# Altium integrated library Microchip Bluetooth.IntLib: 2 symbols
Pins are listed as number, name and electrical type; pins without a type are passive.

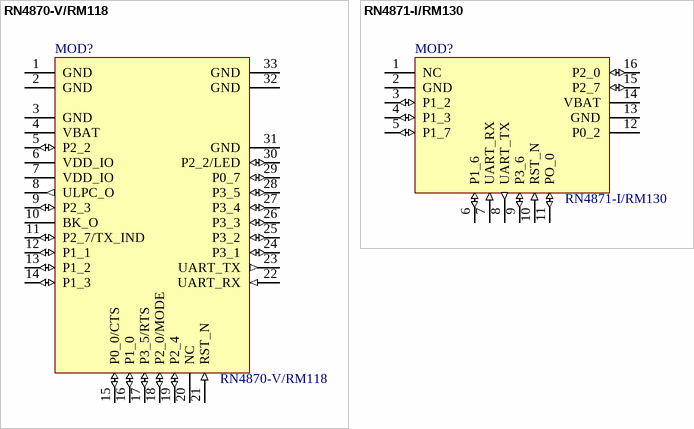
[diagram p0: symbols RN4870-V/RM118 to RN4871-I/RM130]

## RN4870-V/RM118
designator MOD?
BLUETOOTH 4.2 BLE MODULE, SHIELD; Manufacturer: Microchip; Min Supply Voltage: 1.9V; Max Supply Voltage: 3.6V; Supplier 1: Digi-Key; Manufacturer Part Number: RN4870-V/RM118; Stock 1: 362; Pricing 1: 1=7,24000, 25=6,61760 (USD); RoHS: No; Case/Package: Module; Min Operating Temperature: -20°C; Max Operating Temperature: 70°C; REACH SVHC: No SVHC; Lead Free: Lead Free; ComponentLink1URL: http://www.farnell.com/datasheets/2151205.pdf?src-supplier=Farnell; ComponentLink1Description: http://www.farnell.com/datasheets/2151205.pdf?src-supplier=Farnell; ComponentLink2URL: http://www.farnell.com/datasheets/2151205.pdf?src-supplier=Element14; ComponentLink2Description: http://www.farnell.com/datasheets/2151205.pdf?src-supplier=Element14; ComponentLink3URL: http://www.microchip.com/mymicrochip/filehandler.aspx?ddocname=en586030&src-supplier=Digi-Key; ComponentLink3Description: http://www.microchip.com/mymicrochip/filehandler.aspx?ddocname=en586030&src-supplier=Digi-Key; Value: RN4870-V/RM118; Supplier Part Number 1: RN4870-V/RM118-ND
footprint RN4870
pins: 1 GND, 2 GND, 3 GND, 4 VBAT, 5 P2_2 (io), 6 VDD_IO, 7 VDD_IO, 8 ULPC_O (out), 9 P2_3 (io), 10 BK_O, 11 P2_7/TX_IND (io), 12 P1_1 (io), 13 P1_2 (io), 14 P1_3 (io), 15 P0_0/CTS (io), 16 P1_0 (io), 17 P3_5/RTS (io), 18 P2_0/MODE (io), 19 P2_4 (io), 20 NC, 21 RST_N (in), 22 UART_RX (in), 23 UART_TX (out), 24 P3_1 (io), 25 P3_2 (io), 26 P3_3 (io), 27 P3_4 (io), 28 P3_5 (io), 29 P0_7 (io), 30 P2_2/LED (io), 31 GND, 32 GND, 33 GND

## RN4871-I/RM130
designator MOD?
Bluetooth Ble Module, Shielded, Antenna, Ascii Interface, 9X11.5Mm 16 Module 11.5X9x2.1 Mm Tray; Manufacturer: Microchip; Supplier 1: Digi-Key; Manufacturer Part Number: RN4871-I/RM130; Stock 1: 15595; Pricing 1: 1=7,24000, 25=6,61760 (USD); RoHS: No; Value: RN4871-I/RM130; Supplier Part Number 1: RN4871-I/RM130-ND
footprint RN4871
pins: 1 NC, 2 GND, 3 P1_2 (io), 4 P1_3 (io), 5 P1_7 (io), 6 P1_6 (io), 7 UART_RX (in), 8 UART_TX (out), 9 P3_6 (io), 10 RST_N (in), 11 PO_0 (io), 12 P0_2, 13 GND, 14 VBAT, 15 P2_7 (io), 16 P2_0 (io)